# EAGLE library part ANALOG_DEVICES_ADG888YRUZ (library johnmamish-analog-devices)
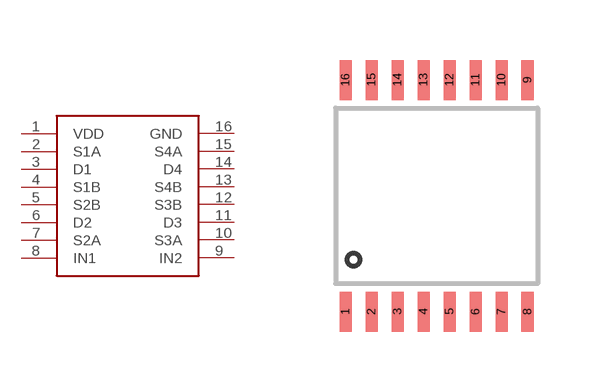
[diagram p0: symbol with the pads of ANALOG_DEVICES_TSSOP_16; footprint ANALOG_DEVICES_TSSOP_16]

Designator prefix -

## ANALOG_DEVICES_ADG888YRUZ  [ANALOG_DEVICES_TSSOP_16]
1  VDD
2  S1A
3  D1
4  S1B
5  S2B
6  D2
7  S2A
8  IN1
9  IN2
10  S3A
11  D3
12  S3B
13  S4B
14  D4
15  S4A
16  GND

## Footprint ANALOG_DEVICES_TSSOP_16 (pad centres in mm)
smd 0.3 x 1: 1 0,-5.8; 2 0.65,-5.8; 3 1.3,-5.8; 4 1.95,-5.8; 5 2.6,-5.8; 6 3.25,-5.8; 7 3.9,-5.8; 8 4.55,-5.8; 9 4.55,0; 10 3.9,0; 11 3.25,0; 12 2.6,0; 13 1.95,0; 14 1.3,0; 15 0.65,0; 16 0,0